# EAGLE library part STM32H753B-PIO (library sjg-stm32)
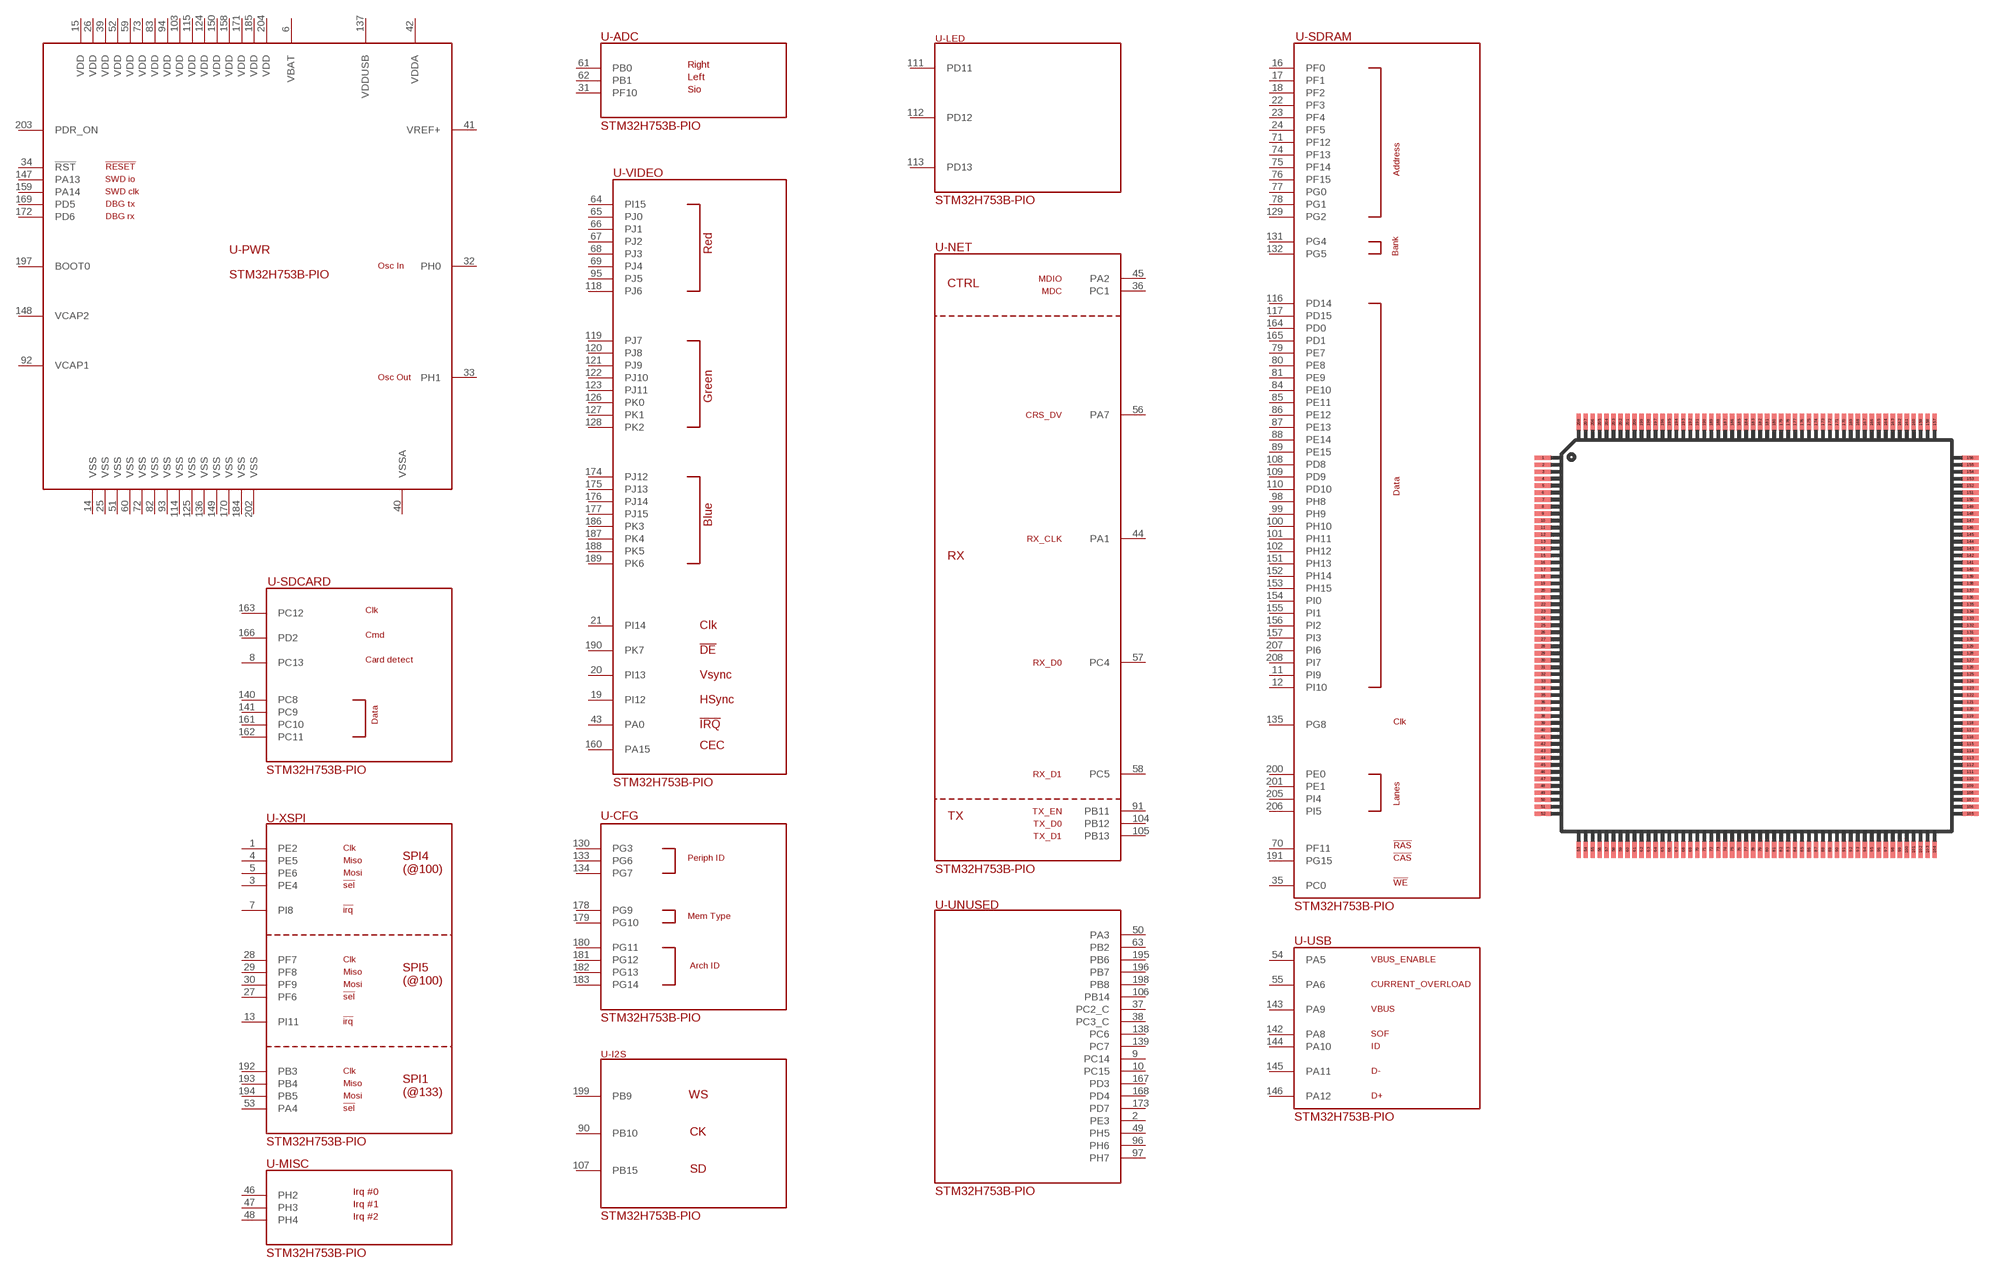
[diagram p4: symbol with the pads of PQFP208; footprint PQFP208]

Designator prefix -; gates -VIDEO=STM32H753B-VID-LCD -ADC=STM32H753B-VID-ADC -CFG=STM32H753B-VID-CFG -I2S=STM32H753B-VID-I2S -LED=STM32H753B-VID-LED -NET=STM32H753B-VID-NET -UNUSED=STM32H753B-VID-UNUSED -PWR=STM32H753B-VID-PWR -SDCARD=STM32H753B-VID-SD -USB=STM32H753B-VID-USB -XSPI=STM32H753B-VID-XSPI -SDRAM=STM32H753B-VID-SDRAM -MISC=STM32H753B-VID-MISC

## STM32H753B-PIO  [PQFP208]
1  -XSPI:PE2
2  -UNUSED:PE3
3  -XSPI:PE4
4  -XSPI:PE5
5  -XSPI:PE6
6  -PWR:VBAT
7  -XSPI:PI8
8  -SDCARD:PC13
9  -UNUSED:PC14
10  -UNUSED:PC15
11  -SDRAM:PI9
12  -SDRAM:PI10
13  -XSPI:PI11
14  -PWR:VSS
15  -PWR:VDD
16  -SDRAM:PF0
17  -SDRAM:PF1
18  -SDRAM:PF2
19  -VIDEO:PI12
20  -VIDEO:PI13
21  -VIDEO:PI14
22  -SDRAM:PF3
23  -SDRAM:PF4
24  -SDRAM:PF5
25  -PWR:VSS
26  -PWR:VDD
27  -XSPI:PF6
28  -XSPI:PF7
29  -XSPI:PF8
30  -XSPI:PF9
31  -ADC:PF10
32  -PWR:PH0
33  -PWR:PH1
34  -PWR:!RST!
35  -SDRAM:PC0
36  -NET:PC1
37  -UNUSED:PC2_C
38  -UNUSED:PC3_C
39  -PWR:VDD
40  -PWR:VSSA
41  -PWR:VREF+
42  -PWR:VDDA
43  -VIDEO:PA0
44  -NET:PA1
45  -NET:PA2
46  -MISC:PH2
47  -MISC:PH3
48  -MISC:PH4
49  -UNUSED:PH5
50  -UNUSED:PA3
51  -PWR:VSS
52  -PWR:VDD
53  -XSPI:PA4
54  -USB:PA5
55  -USB:PA6
56  -NET:PA7
57  -NET:PC4
58  -NET:PC5
59  -PWR:VDD
60  -PWR:VSS
61  -ADC:PB0
62  -ADC:PB1
63  -UNUSED:PB2
64  -VIDEO:PI15
65  -VIDEO:PJ0
66  -VIDEO:PJ1
67  -VIDEO:PJ2
68  -VIDEO:PJ3
69  -VIDEO:PJ4
70  -SDRAM:PF11
71  -SDRAM:PF12
72  -PWR:VSS
73  -PWR:VDD
74  -SDRAM:PF13
75  -SDRAM:PF14
76  -SDRAM:PF15
77  -SDRAM:PG0
78  -SDRAM:PG1
79  -SDRAM:PE7
80  -SDRAM:PE8
81  -SDRAM:PE9
82  -PWR:VSS
83  -PWR:VDD
84  -SDRAM:PE10
85  -SDRAM:PE11
86  -SDRAM:PE12
87  -SDRAM:PE13
88  -SDRAM:PE14
89  -SDRAM:PE15
90  -I2S:PB10
91  -NET:PB11
92  -PWR:VCAP1
93  -PWR:VSS
94  -PWR:VDD
95  -VIDEO:PJ5
96  -UNUSED:PH6
97  -UNUSED:PH7
98  -SDRAM:PH8
99  -SDRAM:PH9
100  -SDRAM:PH10
101  -SDRAM:PH11
102  -SDRAM:PH12
103  -PWR:VDD
104  -NET:PB12
105  -NET:PB13
106  -UNUSED:PB14
107  -I2S:PB15
108  -SDRAM:PD8
109  -SDRAM:PD9
110  -SDRAM:PD10
111  -LED:PD11
112  -LED:PD12
113  -LED:PD13
114  -PWR:VSS
115  -PWR:VDD
116  -SDRAM:PD14
117  -SDRAM:PD15
118  -VIDEO:PJ6
119  -VIDEO:PJ7
120  -VIDEO:PJ8
121  -VIDEO:PJ9
122  -VIDEO:PJ10
123  -VIDEO:PJ11
124  -PWR:VDD
125  -PWR:VSS
126  -VIDEO:PK0
127  -VIDEO:PK1
128  -VIDEO:PK2
129  -SDRAM:PG2
130  -CFG:PG3
131  -SDRAM:PG4
132  -SDRAM:PG5
133  -CFG:PG6
134  -CFG:PG7
135  -SDRAM:PG8
136  -PWR:VSS
137  -PWR:VDDUSB
138  -UNUSED:PC6
139  -UNUSED:PC7
140  -SDCARD:PC8
141  -SDCARD:PC9
142  -USB:PA8
143  -USB:PA9
144  -USB:PA10
145  -USB:PA11
146  -USB:PA12
147  -PWR:PA13
148  -PWR:VCAP2
149  -PWR:VSS
150  -PWR:VDD
151  -SDRAM:PH13
152  -SDRAM:PH14
153  -SDRAM:PH15
154  -SDRAM:PI0
155  -SDRAM:PI1
156  -SDRAM:PI2
157  -SDRAM:PI3
158  -PWR:VDD
159  -PWR:PA14
160  -VIDEO:PA15
161  -SDCARD:PC10
162  -SDCARD:PC11
163  -SDCARD:PC12
164  -SDRAM:PD0
165  -SDRAM:PD1
166  -SDCARD:PD2
167  -UNUSED:PD3
168  -UNUSED:PD4
169  -PWR:PD5
170  -PWR:VSS
171  -PWR:VDD
172  -PWR:PD6
173  -UNUSED:PD7
174  -VIDEO:PJ12
175  -VIDEO:PJ13
176  -VIDEO:PJ14
177  -VIDEO:PJ15
178  -CFG:PG9
179  -CFG:PG10
180  -CFG:PG11
181  -CFG:PG12
182  -CFG:PG13
183  -CFG:PG14
184  -PWR:VSS
185  -PWR:VDD
186  -VIDEO:PK3
187  -VIDEO:PK4
188  -VIDEO:PK5
189  -VIDEO:PK6
190  -VIDEO:PK7
191  -SDRAM:PG15
192  -XSPI:PB3
193  -XSPI:PB4
194  -XSPI:PB5
195  -UNUSED:PB6
196  -UNUSED:PB7
197  -PWR:BOOT0
198  -UNUSED:PB8
199  -I2S:PB9
200  -SDRAM:PE0
201  -SDRAM:PE1
202  -PWR:VSS
203  -PWR:PDR_ON
204  -PWR:VDD
205  -SDRAM:PI4
206  -SDRAM:PI5
207  -SDRAM:PI6
208  -SDRAM:PI7

## Footprint PQFP208 (pad centres in mm)
PLASTIC QUAD FLAT PACK
smd 1.2 x 0.32: 1 -15.3,12.75; 2 -15.3,12.25; 3 -15.3,11.75; 4 -15.3,11.25; 5 -15.3,10.75; 6 -15.3,10.25; 7 -15.3,9.75; 8 -15.3,9.25; 9 -15.3,8.75; 10 -15.3,8.25; 11 -15.3,7.75; 12 -15.3,7.25; 13 -15.3,6.75; 14 -15.3,6.25; 15 -15.3,5.75; 16 -15.3,5.25; 17 -15.3,4.75; 18 -15.3,4.25; 19 -15.3,3.75; 20 -15.3,3.25; 21 -15.3,2.75; 22 -15.3,2.25; 23 -15.3,1.75; 24 -15.3,1.25; 25 -15.3,0.75; 26 -15.3,0.25; 27 -15.3,-0.25; 28 -15.3,-0.75; 29 -15.3,-1.25; 30 -15.3,-1.75; 31 -15.3,-2.25; 32 -15.3,-2.75; 33 -15.3,-3.25; 34 -15.3,-3.75; 35 -15.3,-4.25; 36 -15.3,-4.75; 37 -15.3,-5.25; 38 -15.3,-5.75; 39 -15.3,-6.25; 40 -15.3,-6.75; 41 -15.3,-7.25; 42 -15.3,-7.75; 43 -15.3,-8.25; 44 -15.3,-8.75; 45 -15.3,-9.25; 46 -15.3,-9.75; 47 -15.3,-10.25; 48 -15.3,-10.75; 49 -15.3,-11.25; 50 -15.3,-11.75; 51 -15.3,-12.25; 52 -15.3,-12.75; 105 15.3,-12.75; 106 15.3,-12.25; 107 15.3,-11.75; 108 15.3,-11.25; 109 15.3,-10.75; 110 15.3,-10.25; 111 15.3,-9.75; 112 15.3,-9.25; 113 15.3,-8.75; 114 15.3,-8.25; 115 15.3,-7.75; 116 15.3,-7.25; 117 15.3,-6.75; 118 15.3,-6.25; 119 15.3,-5.75; 120 15.3,-5.25; 121 15.3,-4.75; 122 15.3,-4.25; 123 15.3,-3.75; 124 15.3,-3.25; 125 15.3,-2.75; 126 15.3,-2.25; 127 15.3,-1.75; 128 15.3,-1.25; 129 15.3,-0.75; 130 15.3,-0.25; 131 15.3,0.25; 132 15.3,0.75; 133 15.3,1.25; 134 15.3,1.75; 135 15.3,2.25; 136 15.3,2.75; 137 15.3,3.25; 138 15.3,3.75; 139 15.3,4.25; 140 15.3,4.75; 141 15.3,5.25; 142 15.3,5.75; 143 15.3,6.25; 144 15.3,6.75; 145 15.3,7.25; 146 15.3,7.75; 147 15.3,8.25; 148 15.3,8.75; 149 15.3,9.25; 150 15.3,9.75; 151 15.3,10.25; 152 15.3,10.75; 153 15.3,11.25; 154 15.3,11.75; 155 15.3,12.25; 156 15.3,12.75
smd 0.32 x 1.2: 53 -12.75,-15.3; 54 -12.25,-15.3; 55 -11.75,-15.3; 56 -11.25,-15.3; 57 -10.75,-15.3; 58 -10.25,-15.3; 59 -9.75,-15.3; 60 -9.25,-15.3; 61 -8.75,-15.3; 62 -8.25,-15.3; 63 -7.75,-15.3; 64 -7.25,-15.3; 65 -6.75,-15.3; 66 -6.25,-15.3; 67 -5.75,-15.3; 68 -5.25,-15.3; 69 -4.75,-15.3; 70 -4.25,-15.3; 71 -3.75,-15.3; 72 -3.25,-15.3; 73 -2.75,-15.3; 74 -2.25,-15.3; 75 -1.75,-15.3; 76 -1.25,-15.3; 77 -0.75,-15.3; 78 -0.25,-15.3; 79 0.25,-15.3; 80 0.75,-15.3; 81 1.25,-15.3; 82 1.75,-15.3; 83 2.25,-15.3; 84 2.75,-15.3; 85 3.25,-15.3; 86 3.75,-15.3; 87 4.25,-15.3; 88 4.75,-15.3; 89 5.25,-15.3; 90 5.75,-15.3; 91 6.25,-15.3; 92 6.75,-15.3; 93 7.25,-15.3; 94 7.75,-15.3; 95 8.25,-15.3; 96 8.75,-15.3; 97 9.25,-15.3; 98 9.75,-15.3; 99 10.25,-15.3; 100 10.75,-15.3; 101 11.25,-15.3; 102 11.75,-15.3; 103 12.25,-15.3; 104 12.75,-15.3; 157 12.75,15.3; 158 12.25,15.3; 159 11.75,15.3; 160 11.25,15.3; 161 10.75,15.3; 162 10.25,15.3; 163 9.75,15.3; 164 9.25,15.3; 165 8.75,15.3; 166 8.25,15.3; 167 7.75,15.3; 168 7.25,15.3; 169 6.75,15.3; 170 6.25,15.3; 171 5.75,15.3; 172 5.25,15.3; 173 4.75,15.3; 174 4.25,15.3; 175 3.75,15.3; 176 3.25,15.3; 177 2.75,15.3; 178 2.25,15.3; 179 1.75,15.3; 180 1.25,15.3; 181 0.75,15.3; 182 0.25,15.3; 183 -0.25,15.3; 184 -0.75,15.3; 185 -1.25,15.3; 186 -1.75,15.3; 187 -2.25,15.3; 188 -2.75,15.3; 189 -3.25,15.3; 190 -3.75,15.3; 191 -4.25,15.3; 192 -4.75,15.3; 193 -5.25,15.3; 194 -5.75,15.3; 195 -6.25,15.3; 196 -6.75,15.3; 197 -7.25,15.3; 198 -7.75,15.3; 199 -8.25,15.3; 200 -8.75,15.3; 201 -9.25,15.3; 202 -9.75,15.3; 203 -10.25,15.3; 204 -10.75,15.3; 205 -11.25,15.3; 206 -11.75,15.3; 207 -12.25,15.3; 208 -12.75,15.3